# Altium schematic symbol library ECS-.327-12.5-34B-TR.SchLib: 1 symbol
Pins are listed as number, name and electrical type; pins without a type are passive.

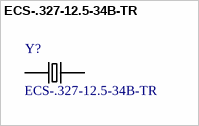
[diagram p0: symbol ECS-.327-12.5-34B-TR]

## ECS-.327-12.5-34B-TR
designator Y?
Crystal 0.032768MHz Â±20ppm _Tol_ 12.5pF Flexural 70000Ohm 2-Pin Mini-SMD T/R; Manufacturer: ECS; Mouser Part Number: 520-327-12.5-34B; Manufacturer: ECS-.327-12.5-34B-TR; MouserURL: https://www.mouser.com/ProductDetail/ECS/ECS-327-125-34B-TR?qs=xCP1SmiXvZHPyAjhnmNtEw%3D%3D
footprint *XTAL_ECS-.327-12.5-34B-TR
pins: 1, 2